# Altium footprint library блок вычислительный_v1.PcbLib: 29 footprints (part 1 of 2)
Each footprint in its own frame and in the unit in brackets; x right, y up, seen from the top. Pads: shape width x height; smd on the part's side, far side on the other; paste and mask are expansions set on the pad; w line width, h text height; cw(c..) or ccw(c..) is an arc to the next point about the centre after c.
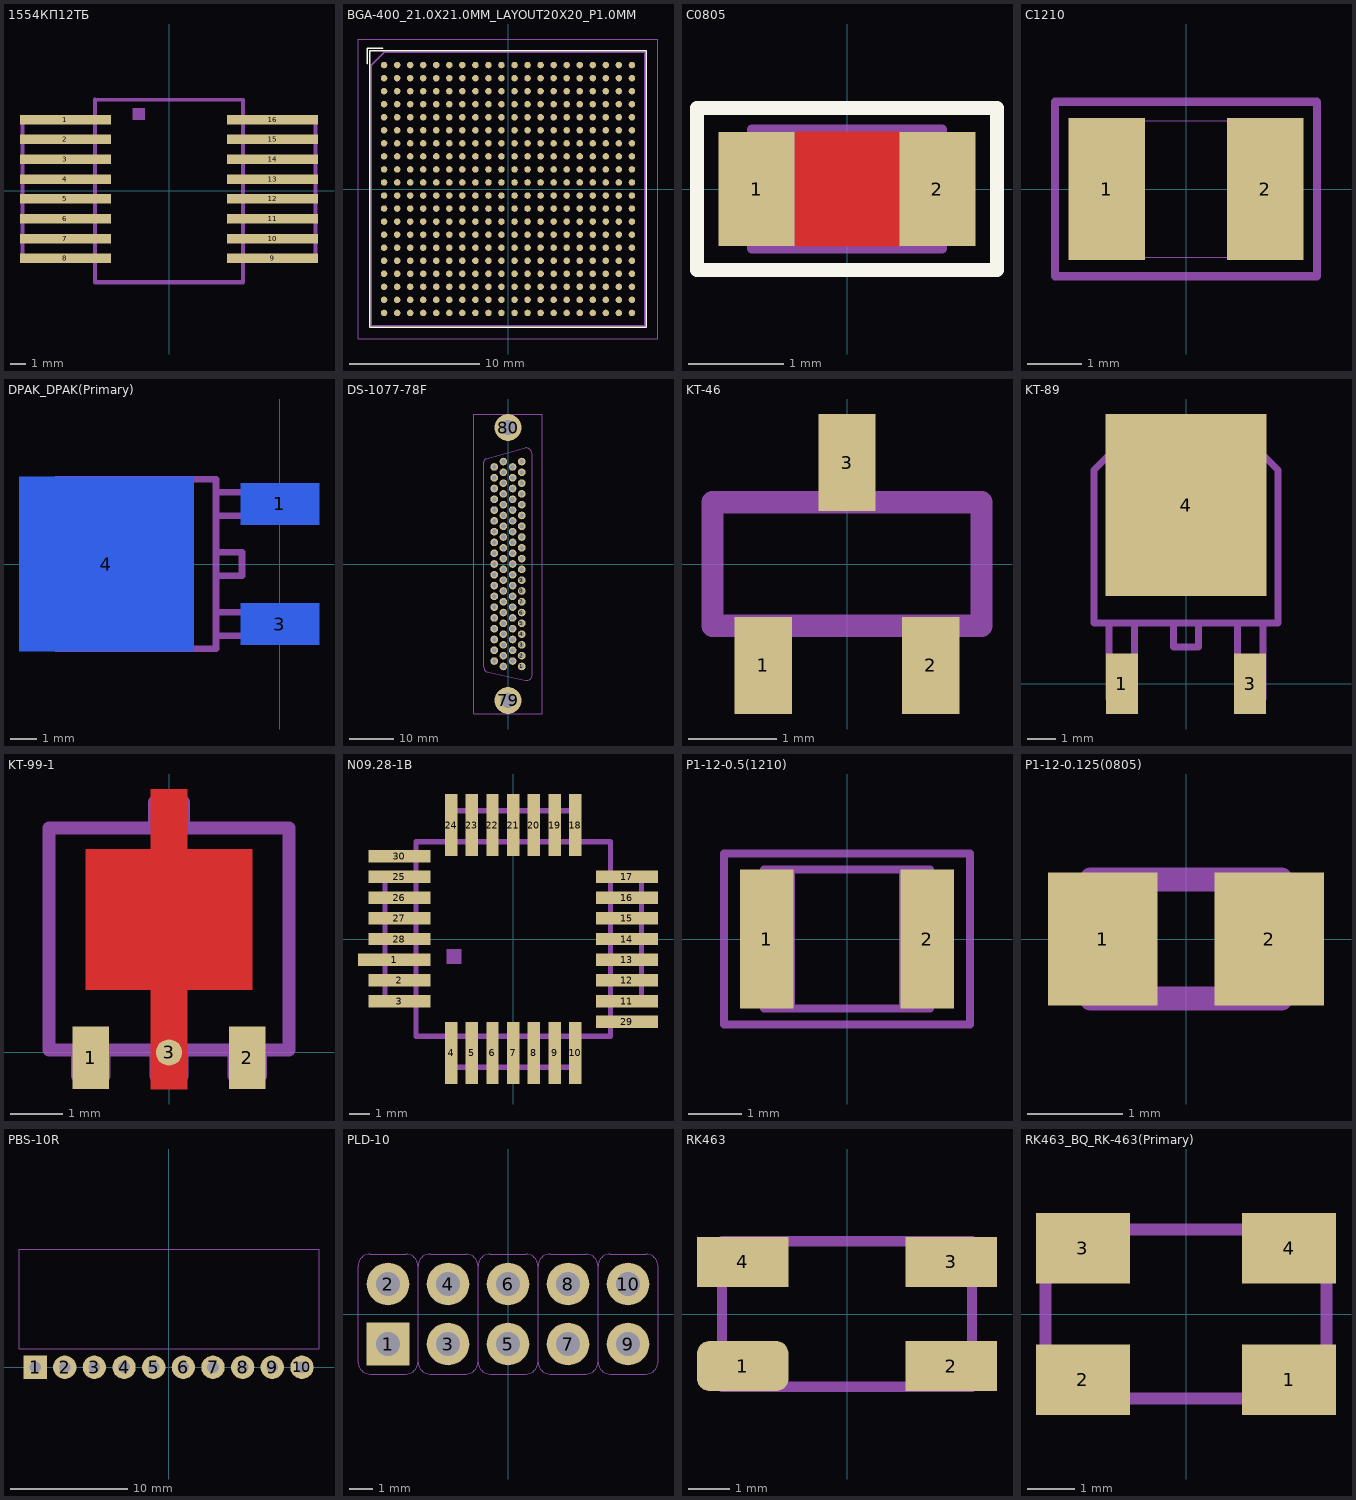
[diagram p0: the footprints below, top view; thin cyan lines are the x and y axes]

## 1554КП12ТБ [mm]
height 0.076
pads (16):
  rect 5.75x0.6 smd paste-25.4 mask-25.4: 1(-6.525,4.5) 2(-6.525,3.25) 3(-6.525,2) 4(-6.525,0.75) 5(-6.525,-0.5) 6(-6.525,-1.75) 7(-6.525,-3) 8(-6.525,-4.25) 9(6.525,-4.25) 10(6.525,-3) 11(6.525,-1.75) 12(6.525,-0.5) 13(6.525,0.75) 14(6.525,2) 15(6.525,3.25) 16(6.525,4.5)
Top Paste:
  region: 9.4,-2.05 5.15,-2.05 5.15,-1.45 9.4,-1.45
  region: 9.4,-4.55 5.15,-4.55 5.15,-3.95 9.4,-3.95
  region: 9.4,-3.3 5.15,-3.3 5.15,-2.7 9.4,-2.7
  region: 9.4,1.7 5.15,1.7 5.15,2.3 9.4,2.3
  region: 9.4,2.95 5.15,2.95 5.15,3.55 9.4,3.55
  region: 9.4,-0.8 5.15,-0.8 5.15,-0.2 9.4,-0.2
  region: 9.4,0.45 5.15,0.45 5.15,1.05 9.4,1.05
  region: -9.4,-2.05 -5.15,-2.05 -5.15,-1.45 -9.4,-1.45
  region: -9.4,-4.55 -5.15,-4.55 -5.15,-3.95 -9.4,-3.95
  region: -9.4,-3.3 -5.15,-3.3 -5.15,-2.7 -9.4,-2.7
  region: -9.4,1.7 -5.15,1.7 -5.15,2.3 -9.4,2.3
  region: -9.4,2.95 -5.15,2.95 -5.15,3.55 -9.4,3.55
  region: -9.4,-0.8 -5.15,-0.8 -5.15,-0.2 -9.4,-0.2
  region: -9.4,0.45 -5.15,0.45 -5.15,1.05 -9.4,1.05
Top Solder:
  region: 9.45,4.85 9.45,4.15 5.15,4.15 5.15,4.85 6.075,4.85 6.975,4.85
  region: 9.45,-2.1 5.15,-2.1 5.15,-1.4 9.45,-1.4
  region: 9.45,-4.6 5.15,-4.6 5.15,-3.9 9.45,-3.9
  region: 9.45,-3.35 5.15,-3.35 5.15,-2.65 9.45,-2.65
  region: 9.45,1.65 5.15,1.65 5.15,2.35 9.45,2.35
  region: 9.45,2.9 5.15,2.9 5.15,3.6 9.45,3.6
  region: 9.45,-0.85 5.15,-0.85 5.15,-0.15 9.45,-0.15
  region: 9.45,0.4 5.15,0.4 5.15,1.1 9.45,1.1
  region: -9.45,-2.1 -5.15,-2.1 -5.15,-1.4 -9.45,-1.4
  region: -9.45,-4.6 -5.15,-4.6 -5.15,-3.9 -9.45,-3.9
  region: -9.45,-3.35 -5.15,-3.35 -5.15,-2.65 -9.45,-2.65
  region: -9.45,4.85 -9.45,4.15 -5.15,4.15 -5.15,4.85 -6.075,4.85 -6.075,5.25 -6.975,5.25 -6.975,4.85
  region: -9.45,1.65 -5.15,1.65 -5.15,2.35 -9.45,2.35
  region: -9.45,2.9 -5.15,2.9 -5.15,3.6 -9.45,3.6
  region: -9.45,-0.85 -5.15,-0.85 -5.15,-0.15 -9.45,-0.15
  region: -9.45,0.4 -5.15,0.4 -5.15,1.1 -9.45,1.1
Mechanical 1:
  region: -2.275,4.475 -1.525,4.475 -1.525,5.225 -2.275,5.225
  lines w0.254: -4.725,-4.325 -9.225,-4.325 -9.225,4.625 -4.725,4.625 ; -4.65,5.75 -4.65,-5.75 4.65,-5.75 4.65,5.736 -4.65,5.752 ; 4.725,-4.325 9.225,-4.325 ; 4.725,4.625 9.225,4.625 9.225,-4.25

## BGA-400_21.0X21.0MM_LAYOUT20X20_P1.0MM [mm]
pads (400):
  round 0.5 smd: A1(-9.5,9.5) A2(-8.5,9.5) A3(-7.5,9.5) A4(-6.5,9.5) A5(-5.5,9.5) A6(-4.5,9.5) A7(-3.5,9.5) A8(-2.5,9.5) A9(-1.5,9.5) A10(-0.5,9.5) A11(0.5,9.5) A12(1.5,9.5) A13(2.5,9.5) A14(3.5,9.5) A15(4.5,9.5) A16(5.5,9.5) A17(6.5,9.5) A18(7.5,9.5) A19(8.5,9.5) A20(9.5,9.5) B1(-9.5,8.5) B2(-8.5,8.5) B3(-7.5,8.5) B4(-6.5,8.5) B5(-5.5,8.5) B6(-4.5,8.5) B7(-3.5,8.5) B8(-2.5,8.5) B9(-1.5,8.5) B10(-0.5,8.5) B11(0.5,8.5) B12(1.5,8.5) B13(2.5,8.5) B14(3.5,8.5) B15(4.5,8.5) B16(5.5,8.5) B17(6.5,8.5) B18(7.5,8.5) B19(8.5,8.5) B20(9.5,8.5) C1(-9.5,7.5) C2(-8.5,7.5) C3(-7.5,7.5) C4(-6.5,7.5) C5(-5.5,7.5) C6(-4.5,7.5) C7(-3.5,7.5) C8(-2.5,7.5) C9(-1.5,7.5) C10(-0.5,7.5) C11(0.5,7.5) C12(1.5,7.5) C13(2.5,7.5) C14(3.5,7.5) C15(4.5,7.5) C16(5.5,7.5) C17(6.5,7.5) C18(7.5,7.5) C19(8.5,7.5) C20(9.5,7.5) D1(-9.5,6.5) D2(-8.5,6.5) D3(-7.5,6.5) D4(-6.5,6.5) D5(-5.5,6.5) D6(-4.5,6.5) D7(-3.5,6.5) D8(-2.5,6.5) D9(-1.5,6.5) D10(-0.5,6.5) D11(0.5,6.5) D12(1.5,6.5) D13(2.5,6.5) D14(3.5,6.5) D15(4.5,6.5) D16(5.5,6.5) D17(6.5,6.5) D18(7.5,6.5) D19(8.5,6.5) D20(9.5,6.5) E1(-9.5,5.5) E2(-8.5,5.5) E3(-7.5,5.5) E4(-6.5,5.5) E5(-5.5,5.5) E6(-4.5,5.5) E7(-3.5,5.5) E8(-2.5,5.5) E9(-1.5,5.5) E10(-0.5,5.5) E11(0.5,5.5) E12(1.5,5.5) E13(2.5,5.5) E14(3.5,5.5) E15(4.5,5.5) E16(5.5,5.5) E17(6.5,5.5) E18(7.5,5.5) E19(8.5,5.5) E20(9.5,5.5) F1(-9.5,4.5) F2(-8.5,4.5) F3(-7.5,4.5) F4(-6.5,4.5) F5(-5.5,4.5) F6(-4.5,4.5) F7(-3.5,4.5) F8(-2.5,4.5) F9(-1.5,4.5) F10(-0.5,4.5) F11(0.5,4.5) F12(1.5,4.5) F13(2.5,4.5) F14(3.5,4.5) F15(4.5,4.5) F16(5.5,4.5) F17(6.5,4.5) F18(7.5,4.5) F19(8.5,4.5) F20(9.5,4.5) G1(-9.5,3.5) G2(-8.5,3.5) G3(-7.5,3.5) G4(-6.5,3.5) G5(-5.5,3.5) G6(-4.5,3.5) G7(-3.5,3.5) G8(-2.5,3.5) G9(-1.5,3.5) G10(-0.5,3.5) G11(0.5,3.5) G12(1.5,3.5) G13(2.5,3.5) G14(3.5,3.5) G15(4.5,3.5) G16(5.5,3.5) G17(6.5,3.5) G18(7.5,3.5) G19(8.5,3.5) G20(9.5,3.5) H1(-9.5,2.5) H2(-8.5,2.5) H3(-7.5,2.5) H4(-6.5,2.5) H5(-5.5,2.5) H6(-4.5,2.5) H7(-3.5,2.5) H8(-2.5,2.5) H9(-1.5,2.5) H10(-0.5,2.5) H11(0.5,2.5) H12(1.5,2.5) H13(2.5,2.5) H14(3.5,2.5) H15(4.5,2.5) H16(5.5,2.5) H17(6.5,2.5) H18(7.5,2.5) H19(8.5,2.5) H20(9.5,2.5) J1(-9.5,1.5) J2(-8.5,1.5) J3(-7.5,1.5) J4(-6.5,1.5) J5(-5.5,1.5) J6(-4.5,1.5) J7(-3.5,1.5) J8(-2.5,1.5) J9(-1.5,1.5) J10(-0.5,1.5) J11(0.5,1.5) J12(1.5,1.5) J13(2.5,1.5) J14(3.5,1.5) J15(4.5,1.5) J16(5.5,1.5) J17(6.5,1.5) J18(7.5,1.5) J19(8.5,1.5) J20(9.5,1.5) K1(-9.5,0.5) K2(-8.5,0.5) K3(-7.5,0.5) K4(-6.5,0.5) K5(-5.5,0.5) K6(-4.5,0.5) K7(-3.5,0.5) K8(-2.5,0.5) K9(-1.5,0.5) K10(-0.5,0.5) K11(0.5,0.5) K12(1.5,0.5) K13(2.5,0.5) K14(3.5,0.5) K15(4.5,0.5) K16(5.5,0.5) K17(6.5,0.5) K18(7.5,0.5) K19(8.5,0.5) K20(9.5,0.5) L1(-9.5,-0.5) L2(-8.5,-0.5) L3(-7.5,-0.5) L4(-6.5,-0.5) L5(-5.5,-0.5) L6(-4.5,-0.5) L7(-3.5,-0.5) L8(-2.5,-0.5) L9(-1.5,-0.5) L10(-0.5,-0.5) L11(0.5,-0.5) L12(1.5,-0.5) L13(2.5,-0.5) L14(3.5,-0.5) L15(4.5,-0.5) L16(5.5,-0.5) L17(6.5,-0.5) L18(7.5,-0.5) L19(8.5,-0.5) L20(9.5,-0.5) M1(-9.5,-1.5) M2(-8.5,-1.5) M3(-7.5,-1.5) M4(-6.5,-1.5) M5(-5.5,-1.5) M6(-4.5,-1.5) M7(-3.5,-1.5) M8(-2.5,-1.5) M9(-1.5,-1.5) M10(-0.5,-1.5) M11(0.5,-1.5) M12(1.5,-1.5) M13(2.5,-1.5) M14(3.5,-1.5) M15(4.5,-1.5) M16(5.5,-1.5) M17(6.5,-1.5) M18(7.5,-1.5) M19(8.5,-1.5) M20(9.5,-1.5) N1(-9.5,-2.5) N2(-8.5,-2.5) N3(-7.5,-2.5) N4(-6.5,-2.5) N5(-5.5,-2.5) N6(-4.5,-2.5) N7(-3.5,-2.5) N8(-2.5,-2.5) N9(-1.5,-2.5) N10(-0.5,-2.5) N11(0.5,-2.5) N12(1.5,-2.5) N13(2.5,-2.5) N14(3.5,-2.5) N15(4.5,-2.5) N16(5.5,-2.5) N17(6.5,-2.5) N18(7.5,-2.5) N19(8.5,-2.5) N20(9.5,-2.5) P1(-9.5,-3.5) P2(-8.5,-3.5) P3(-7.5,-3.5) P4(-6.5,-3.5) P5(-5.5,-3.5) P6(-4.5,-3.5) P7(-3.5,-3.5) P8(-2.5,-3.5) P9(-1.5,-3.5) P10(-0.5,-3.5) P11(0.5,-3.5) P12(1.5,-3.5) P13(2.5,-3.5) P14(3.5,-3.5) P15(4.5,-3.5) P16(5.5,-3.5) P17(6.5,-3.5) P18(7.5,-3.5) P19(8.5,-3.5) P20(9.5,-3.5) Q1(-9.5,-4.5) Q2(-8.5,-4.5) Q3(-7.5,-4.5) Q4(-6.5,-4.5) Q5(-5.5,-4.5) Q6(-4.5,-4.5) Q7(-3.5,-4.5) Q8(-2.5,-4.5) Q9(-1.5,-4.5) Q10(-0.5,-4.5) Q11(0.5,-4.5) Q12(1.5,-4.5) Q13(2.5,-4.5) Q14(3.5,-4.5) Q15(4.5,-4.5) Q16(5.5,-4.5) Q17(6.5,-4.5) Q18(7.5,-4.5) Q19(8.5,-4.5) Q20(9.5,-4.5) R1(-9.5,-5.5) R2(-8.5,-5.5) R3(-7.5,-5.5) R4(-6.5,-5.5) R5(-5.5,-5.5) R6(-4.5,-5.5) R7(-3.5,-5.5) R8(-2.5,-5.5) R9(-1.5,-5.5) R10(-0.5,-5.5) R11(0.5,-5.5) R12(1.5,-5.5) R13(2.5,-5.5) R14(3.5,-5.5) R15(4.5,-5.5) R16(5.5,-5.5) R17(6.5,-5.5) R18(7.5,-5.5) R19(8.5,-5.5) R20(9.5,-5.5) S1(-9.5,-6.5) S2(-8.5,-6.5) S3(-7.5,-6.5) S4(-6.5,-6.5) S5(-5.5,-6.5) S6(-4.5,-6.5) S7(-3.5,-6.5) S8(-2.5,-6.5) S9(-1.5,-6.5) S10(-0.5,-6.5) S11(0.5,-6.5) S12(1.5,-6.5) S13(2.5,-6.5) S14(3.5,-6.5) S15(4.5,-6.5) S16(5.5,-6.5) S17(6.5,-6.5) S18(7.5,-6.5) S19(8.5,-6.5) S20(9.5,-6.5) T1(-9.5,-7.5) T2(-8.5,-7.5) T3(-7.5,-7.5) T4(-6.5,-7.5) T5(-5.5,-7.5) T6(-4.5,-7.5) T7(-3.5,-7.5) T8(-2.5,-7.5) T9(-1.5,-7.5) T10(-0.5,-7.5) T11(0.5,-7.5) T12(1.5,-7.5) T13(2.5,-7.5) T14(3.5,-7.5) T15(4.5,-7.5) T16(5.5,-7.5) T17(6.5,-7.5) T18(7.5,-7.5) T19(8.5,-7.5) T20(9.5,-7.5) U1(-9.5,-8.5) U2(-8.5,-8.5) U3(-7.5,-8.5) U4(-6.5,-8.5) U5(-5.5,-8.5) U6(-4.5,-8.5) U7(-3.5,-8.5) U8(-2.5,-8.5) U9(-1.5,-8.5) U10(-0.5,-8.5) U11(0.5,-8.5) U12(1.5,-8.5) U13(2.5,-8.5) U14(3.5,-8.5) U15(4.5,-8.5) U16(5.5,-8.5) U17(6.5,-8.5) U18(7.5,-8.5) U19(8.5,-8.5) U20(9.5,-8.5) V1(-9.5,-9.5) V2(-8.5,-9.5) V3(-7.5,-9.5) V4(-6.5,-9.5) V5(-5.5,-9.5) V6(-4.5,-9.5) V7(-3.5,-9.5) V8(-2.5,-9.5) V9(-1.5,-9.5) V10(-0.5,-9.5) V11(0.5,-9.5) V12(1.5,-9.5) V13(2.5,-9.5) V14(3.5,-9.5) V15(4.5,-9.5) V16(5.5,-9.5) V17(6.5,-9.5) V18(7.5,-9.5) V19(8.5,-9.5) V20(9.5,-9.5)
Top Overlay:
  lines w0.12: -10.8,9.6 -10.8,10.8 -9.6,10.8 ; -10.6,-10.6 -10.6,10.6 10.6,10.6 10.6,-10.6 -10.6,-10.6
Mechanical 1:
  lines w0.05: -11.5,-11.5 11.5,-11.5 11.5,11.5 -11.5,11.5 -11.5,-11.5
Mechanical 15:
  lines w0.1: -10.5,-10.5 -10.5,9.5 -9.5,10.5 10.5,10.5 10.5,-10.5 -10.5,-10.5
  text "REF" at -1.2,-0.5 h1
3D body "vr_3d.stp": height 3.15, standoff 0.01, extent -10.5,-10.5 10.5,10.5

## C0805 [mm]
height 2
pads (2):
  rect 0.8x1.2 smd: 1(-0.95,0) 2(0.95,0)
Top Layer:
  pour cut-out: -0.55,0.6 -0.55,-0.6 0.55,-0.6 0.55,0.6
Top Overlay:
  lines w0.15: -1.575,-0.85 1.575,-0.85 1.575,0.85 -1.575,0.85 -1.575,-0.85
Mechanical 13:
  lines w0.1: -0.55,-0.625 -0.55,0.625 ; 0.55,-0.625 0.55,0.625 ; -1,-0.625 -1,0.625 1,0.625 1,-0.625 -1,-0.625
3D body "Cap0805.STEP": height 1.25, standoff 0, extent -1,-0.635 1,0.635

## C1210 [mm]
height 2.5
pads (2):
  rect 1.4x2.6 smd: 1(-1.45,0) 2(1.45,0)
Mechanical 13:
  lines w0.01: -0.85,-1.25 -0.85,1.25 ; 0.85,-1.25 0.85,1.25 ; -1.6,-1.25 1.6,-1.25 1.6,1.25 -1.6,1.25 -1.6,-1.25
Mechanical 15:
  lines w0.15: -2.4,-1.6 2.4,-1.6 2.4,1.6 -2.4,1.6 -2.4,-1.6
3D body "Cap1210.STEP": height 2.5, standoff 0, extent -1.625,-1.275 1.575,1.265

## DPAK_DPAK(Primary) [mm]
height 0.061
pads (3):
  rect 3x1.6 smd far side: 1(0,2.3) 3(0,-2.3)
  rect 6.7x6.7 smd far side: 4(-6.65,0)
Mechanical 2:
  lines w0.254: -8.55,-2.7 -9.35,-2.7 -9.35,2.7 -8.55,2.7 ; -2.45,-2.75 0.75,-2.75 0.75,-1.85 -2.45,-1.85 ; -2.45,-0.45 -1.45,-0.45 -1.45,0.45 -2.45,0.45 ; -2.45,1.85 0.75,1.85 0.75,2.75 -2.45,2.75 ; -8.55,-3.25 -8.55,3.25 -2.45,3.25 -2.45,-3.25 -8.55,-3.25

## DS-1077-78F [mm]
pads (80):
  round 1.7 hole 1.1: 1(3.075,-22.895) 2(3.075,-20.485) 3(3.075,-18.075) 4(3.075,-15.665) 5(3.075,-13.255) 6(3.075,-10.845) 7(3.075,-8.435) 8(3.075,-6.025) 9(3.075,-3.615) 10(3.075,-1.205) 11(3.075,1.205) 12(3.075,3.615) 13(3.075,6.025) 14(3.075,8.435) 15(3.075,10.845) 16(3.075,13.255) 17(3.075,15.665) 18(3.075,18.075) 19(3.075,20.485) 20(3.075,22.895) 21(1.025,-21.69) 22(1.025,-19.28) 23(1.025,-16.87) 24(1.025,-14.46) 25(1.025,-12.05) 26(1.025,-9.64) 27(1.025,-7.23) 28(1.025,-4.82) 29(1.025,-2.41) 30(1.025,0) 31(1.025,2.41) 32(1.025,4.82) 33(1.025,7.23) 34(1.025,9.64) 35(1.025,12.05) 36(1.025,14.46) 37(1.025,16.87) 38(1.025,19.28) 39(1.025,21.69) 40(-1.025,-22.895) 41(-1.025,-20.485) 42(-1.025,-18.075) 43(-1.025,-15.665) 44(-1.025,-13.255) 45(-1.025,-10.845) 46(-1.025,-8.435) 47(-1.025,-6.025) 48(-1.025,-3.615) 49(-1.025,-1.205) 50(-1.025,1.205) 51(-1.025,3.615) 52(-1.025,6.025) 53(-1.025,8.435) 54(-1.025,10.845) 55(-1.025,13.255) 56(-1.025,15.665) 57(-1.025,18.075) 58(-1.025,20.485) 59(-1.025,22.895) 60(-3.075,-21.69) 61(-3.075,-19.28) 62(-3.075,-16.87) 63(-3.075,-14.46) 64(-3.075,-12.05) 65(-3.075,-9.64) 66(-3.075,-7.23) 67(-3.075,-4.82) 68(-3.075,-2.41) 69(-3.075,0) 70(-3.075,2.41) 71(-3.075,4.82) 72(-3.075,7.23) 73(-3.075,9.64) 74(-3.075,12.05) 75(-3.075,14.46) 76(-3.075,16.87) 77(-3.075,19.28) 78(-3.075,21.69)
  round 6 hole 3.4: 79(0,-30.5) 80(0,30.5)
Mechanical 1:
  lines w0.254: -5.4,-23.07 -5.4,1.8 ; -5.4,-0.8 -5.4,22.76 ; -5.4,22.71 cw(c-4.648,22.792) -4.853,23.52 ; -5.368,-23.114 ccw(c-4.37,-23.156) -4.662,-24.111 ; -4.9,23.5 3.8,25.95 ; -4.7,-24.1 3.9,-26 ; 3.89,25.96 cw(c3.905,24.465) 5.399,24.418 ; 3.912,-25.946 ccw(c4.2,-24.75) 5.429,-24.802 ; 5.4,-24.8 5.4,0 5.4,24.5 ; -7.65,-33.52 -7.65,33.52 7.65,33.52 7.65,-33.52 -7.65,-33.52
Mechanical 3:
  circle w0.254: c0,-30.5 r1.55
  circle w0.254: c0,30.5 r1.55
  lines w0.1: -2.8,30.5 2.8,30.5 ; -2.7,-30.5 2.7,-30.5 ; 0,-33.1 0,-27.8 ; 0,27.9 0,33.1

## KT-46 [mm]
height 1.2
pads (3):
  rect 0.65x1.1 smd: 1(-0.95,-1.15) 2(0.95,-1.15) 3(0,1.15)
Mechanical 1:
  lines w0.25: -0.95,-1.524 -0.95,-0.7 ; 0,0.7 0,1.524 ; 0.95,-1.524 0.95,-0.7 ; -1.525,-0.7 1.525,-0.7 1.525,0.7 -1.525,0.7 -1.525,-0.7
  text ".Designator" at -1.25,-0.25 h1
3D body: height 0.5, standoff 0, extent -1.2,-1.5 1.2,1.5
3D body: height 1.2, standoff 0, extent -1.525,-0.7 1.525,0.7

## KT-89 [mm]
height 2.4
pads (3):
  rect 1.14x2.16 smd: 1(-2.28,0) 3(2.28,0)
  rect 5.72x6.48 smd: 4(0,6.35)
Mechanical 1:
  lines w0.25: -2.735,2.15 -2.735,-0.55 -2.235,-0.55 -2.235,-0.168 -2.235,-0.05 -1.835,-0.05 -1.835,2.15 ; -0.45,2.15 -0.45,1.3 0.45,1.3 0.45,2.15 ; 1.835,2.15 1.835,-0.05 2.235,-0.05 2.235,-0.168 2.235,-0.55 2.735,-0.55 2.735,2.15 ; -2.62,8.25 -2.62,9.015 -1.7,9.35 -1.5,9.35 -1.5,9.015 1.5,9.015 1.5,9.35 1.7,9.35 2.62,9.015 2.62,8.25 ; -2.62,8.25 -3.275,7.595 -3.275,2.15 3.275,2.15 3.275,7.595 2.62,8.25 ; -2.62,8.25 2.62,8.25
  text ".Designator" at -2.225,4.8 h2
3D body "KT-89.STEP": height 2.4, standoff 0, extent -3.275,-0.55 3.275,9.35

## KT-99-1 [mm]
height 1.8
pads (3):
  rect 0.7x1.2 smd: 1(-1.5,-0.1) 2(1.5,-0.1)
  round 0.5 smd paste-25.4 mask-25.4: 3(0,0)
Top Layer:
  region: -0.35,-0.7 0.35,-0.7 0.35,1.2 1.6,1.2 1.6,3.9 0.35,3.9 0.35,5.05 -0.35,5.05 -0.35,3.9 -1.6,3.9 -1.6,1.2 -0.35,1.2
Mechanical 1:
  lines w0.25: -1.75,0.05 -1.75,-0.45 -1.25,-0.45 -1.25,0.05 ; -0.275,4.3 -0.275,4.8 0.275,4.8 0.275,4.3 ; -0.25,0.05 -0.25,-0.45 0.25,-0.45 0.25,0.05 ; 1.25,0.05 1.25,-0.45 1.75,-0.45 1.75,0.05 ; -2.3,0.05 -2.3,4.3 2.3,4.3 2.3,0.05 -2.3,0.05
  text ".Designator" at -1.75,1.75 h1.5
3D body: height 1.8, standoff 0, extent -2.3,0.05 2.3,4.3
3D body: height 0.6, standoff 0, extent -1.75,-0.45 1.75,4.8

## N09.28-1B [mm]
height 0.084
pads (30):
  rect 3.5x0.6 smd: 1(-5.75,-1)
  rect 3x0.6 smd: 2(-5.5,-2) 3(-5.5,-3) 11(5.5,-3) 12(5.5,-2) 13(5.5,-1) 14(5.5,0) 15(5.5,1) 16(5.5,2) 17(5.5,3) 25(-5.5,3) 26(-5.5,2) 27(-5.5,1) 28(-5.5,0) 29(5.5,-4) 30(-5.5,4)
  rect 0.6x3 smd: 4(-3,-5.5) 5(-2,-5.5) 6(-1,-5.5) 7(0,-5.5) 8(1,-5.5) 9(2,-5.5) 10(3,-5.5) 18(3,5.5) 19(2,5.5) 20(1,5.5) 21(0,5.5) 22(-1,5.5) 23(-2,5.5) 24(-3,5.5)
Mechanical 1:
  region: -3.2,-0.5 -3.2,-1.2 -2.5,-1.2 -2.5,-0.5
  lines w0.254: -4.7,-3 -6.2,-3 -6.2,3 -4.7,3 ; -3,-4.7 -3,-6.2 3,-6.2 3,-4.7 ; -3,4.7 -3,6.2 3,6.2 3,4.7 ; 4.7,-3 6.2,-3 6.2,3 4.7,3 ; -4.7,-4.7 4.7,-4.7 4.7,4.7 -4.7,4.7 -4.7,-4.7

## P1-12-0.5(1210) [mm]
height 0.6
pads (2):
  rect 1x2.6 smd: 1(-1.5,0) 2(1.5,0)
Mechanical 13:
  lines w0.15: -1.05,-1.3 -1.05,1.3 ; 1.05,-1.3 1.05,1.3 ; -1.55,-1.3 -1.55,1.3 1.55,1.3 1.55,-1.3 -1.55,-1.3
Mechanical 15:
  lines w0.15: -2.3,-1.6 -2.3,1.6 2.3,1.6 2.3,-1.6 -2.3,-1.6
3D body "SMDR_1210.STEP": height 0.56, standoff 0, extent -1.6,-1.25 1.6,1.25

## P1-12-0.125(0805) [mm]
height 0.6
pads (2):
  rect 1.15x1.4 smd: 1(-0.875,0) 2(0.875,0)
Mechanical 1:
  lines w0.25: -1,-0.625 1,-0.625 1,0.625 -1,0.625 -1,-0.625
  text ".Designator" at -1,1 h1
3D body: height 0.6, standoff 0, extent -1,-0.625 1,0.625

## PBS-10R [mm]
height 2.5
pads (10):
  rect 2x2 hole 1 mask+0: 1(-11.43,0)
  round 2 hole 1 mask+0: 2(-8.89,0) 3(-6.35,0) 4(-3.81,0) 5(-1.27,0) 6(1.27,0) 7(3.81,0) 8(6.35,0) 9(8.89,0) 10(11.43,0)
Mechanical 13:
  lines w0.05: -12.81,1.59 -12.81,10.12 12.89,10.12 12.89,1.62 12.86,1.59 -12.81,1.59
3D body "User Library-PBS-10R.STEP": height 2.55, standoff -2.5, extent -12.66,-0.2 12.74,10.1

## PLD-10 [mm]
height 8.75
pads (10):
  rect 1.8x1.8 hole 1: 1(-5.08,-1.27)
  round 1.8 hole 1: 2(-5.08,1.27) 3(-2.54,-1.27) 4(-2.54,1.27) 5(0,-1.27) 6(0,1.27) 7(2.54,-1.27) 8(2.54,1.27) 9(5.08,-1.27) 10(5.08,1.27)
Mechanical 13:
  lines w0.05: -3.81,-2.032 cw(c-4.318,-2.032) -4.318,-2.54 -5.842,-2.54 cw(c-5.842,-2.032) -6.35,-2.032 -6.35,2.032 cw(c-5.842,2.032) -5.842,2.54 -4.318,2.54 cw(c-4.318,2.032) -3.81,2.032 ; -3.81,-2.032 ccw(c-3.302,-2.032) -3.302,-2.54 -1.778,-2.54 ccw(c-1.778,-2.032) -1.27,-2.032 ; -3.81,-2.032 -3.81,2.032 ; -3.81,2.032 cw(c-3.302,2.032) -3.302,2.54 -1.778,2.54 cw(c-1.778,2.032) -1.27,2.032 ; -1.27,-2.032 ccw(c-0.762,-2.032) -0.762,-2.54 0.762,-2.54 ccw(c0.762,-2.032) 1.27,-2.032 ; -1.27,-2.032 -1.27,2.032 ; -1.27,2.032 cw(c-0.762,2.032) -0.762,2.54 0.762,2.54 cw(c0.762,2.032) 1.27,2.032 ; 1.27,-2.032 ccw(c1.778,-2.032) 1.778,-2.54 3.302,-2.54 ccw(c3.302,-2.032) 3.81,-2.032 ; 1.27,-2.032 1.27,2.032 ; 1.27,-2.032 1.27,2.032 ; 1.27,2.032 cw(c1.778,2.032) 1.778,2.54 3.302,2.54 cw(c3.302,2.032) 3.81,2.032 ; 3.81,-2.032 ccw(c4.318,-2.032) 4.318,-2.54 5.842,-2.54 ccw(c5.842,-2.032) 6.35,-2.032 6.35,2.032 ccw(c5.842,2.032) 5.842,2.54 4.318,2.54 ccw(c4.318,2.032) 3.81,2.032 ; 3.81,-2.032 3.81,2.032 ; 3.81,-2.032 3.81,2.032
3D body "PLD-10.STEP": height 8.4, standoff -3, extent -6.345,-2.5 6.355,2.5

## RK463 [mm]
height 1.2
pads (4):
  rrect50% 2.2x1.2 smd: 1(-2.5,-1.25)
  rect 2.2x1.2 smd: 2(2.5,-1.25) 3(2.5,1.25) 4(-2.5,1.25)
Mechanical 1:
  lines w0.25: -3,-1.75 -3,1.75 3,1.75 3,-1.75 -3,-1.75
  text ".Designator" at -2,-0.5 h2
3D body: height 1.2, standoff 0, extent -3,-1.75 3,1.75

## RK463_BQ_RK-463(Primary) [mm]
height 0.025
pads (4):
  rect 2x1.5 smd: 1(2.2,-1.4) 2(-2.2,-1.4) 3(-2.2,1.4) 4(2.2,1.4)
Mechanical 1:
  region: 1.7,-0.9 1.7,-1.2 2,-1.2 2,-0.9
  lines w0.254: -3,-1.8 -3,1.8 3,1.8 3,-1.8 -3,-1.8